# EAGLE library part DPDT (library connectors)
AYZ0202AGRLC (Slide Switches) Source: Datasheet <https://www.ckswitches.com/media/1431/ayz.pdf>
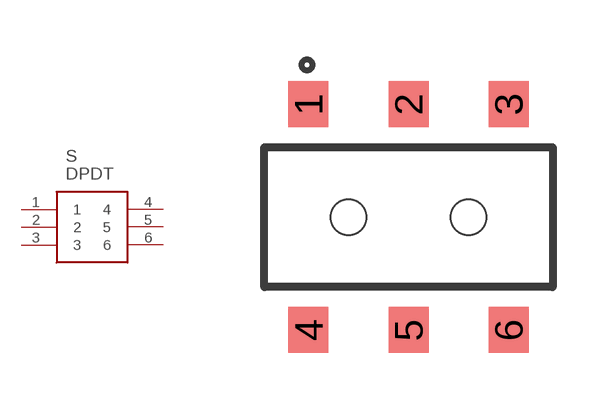
[diagram p14: symbol with the pads of AYZ0202AGRLC; footprint AYZ0202AGRLC]

Designator prefix S

## DPDT (ALLIED_NUMBER: 70417470; ALLIED_PRICE-STOCK: https://www.alliedelec.com/c-k-ayz0202agrlc/70417470/; DESCRIPTION: AYZ0202AGRLC (Slide Switches); HEIGHT: mm; MANUFACTURER_NAME: C & K COMPONENTS; MANUFACTURER_PART_NUMBER: AYZ0202AGRLC; MOUSER_PART_NUMBER: 611-AYZ0202AGRLC; MOUSER_PRICE-STOCK: https://www.mouser.com/Search/Refine.aspx?Keyword=611-AYZ0202AGRLC; RS_PART_NUMBER: 7931504P; RS_PRICE-STOCK: http://uk.rs-online.com/web/p/products/7931504P)  [AYZ0202AGRLC]
1  1
2  2
3  3
4  4
5  5
6  6

## Footprint AYZ0202AGRLC (pad centres in mm)
AYZ0202AGRLC
smd 1 x 1.15: 1 -2.5,2.825; 2 0,2.825; 3 2.5,2.825; 4 -2.5,-2.825; 5 0,-2.825; 6 2.5,-2.825
hole 0.88 at -1.5,0
hole 0.88 at 1.5,0